# Altium footprint library diode.PcbLib: 9 footprints
Each footprint in its own frame and in the unit in brackets; x right, y up, seen from the top. Pads: shape width x height; smd on the part's side, far side on the other; paste and mask are expansions set on the pad; w line width, h text height; cw(c..) or ccw(c..) is an arc to the next point about the centre after c.
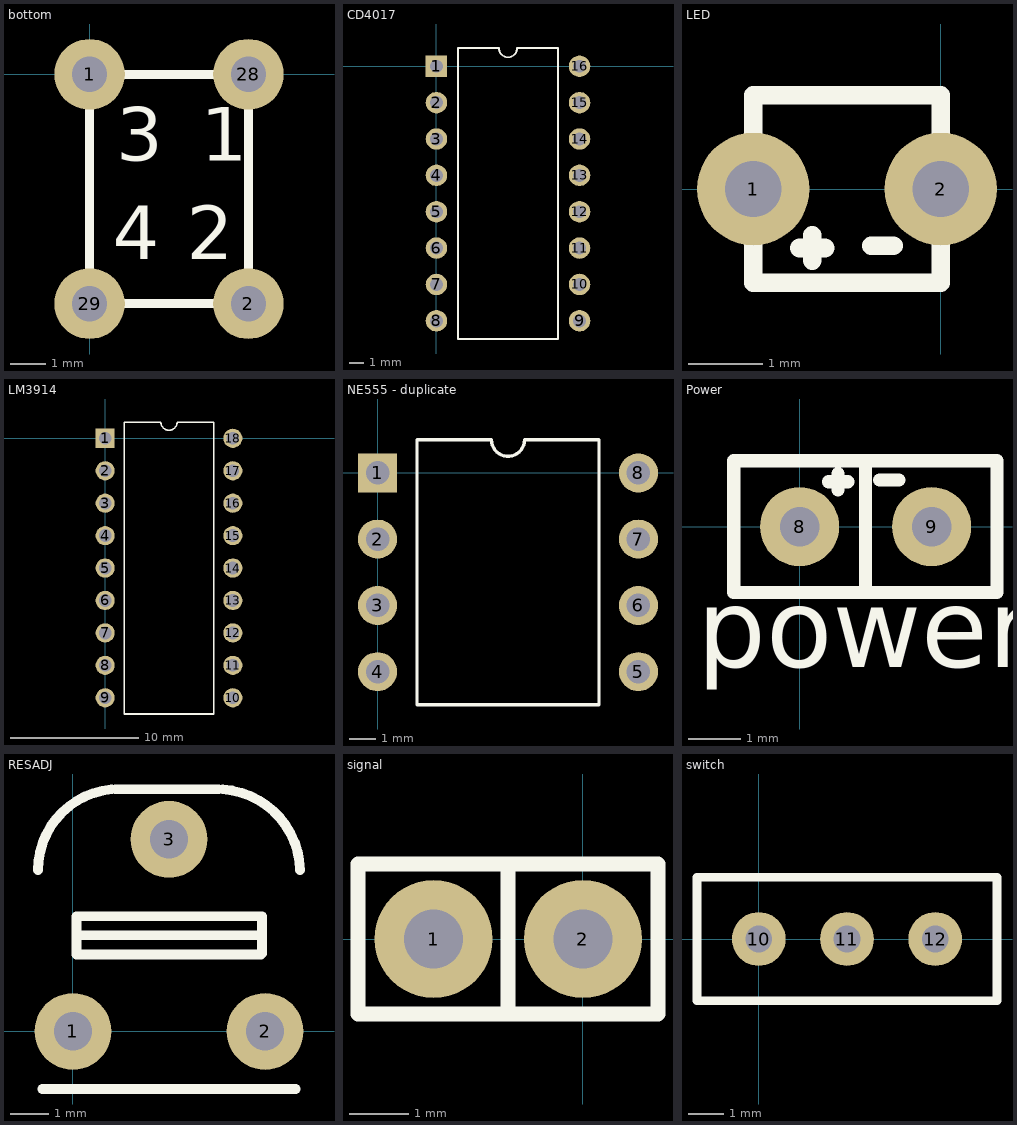
[diagram p0: the footprints below, top view; thin cyan lines are the x and y axes]

## bottom [mm]
pads (4):
  round 2 hole 1: 1(0,0) 2(4.5,-6.5) 28(4.5,0) 29(0,-6.5)
Top Overlay:
  lines w0.254: 0,-6.5 0,0 4.5,0 4.5,-6.5 0,-6.5
  text "4" at 0.654,-5.246 h1.52
  text "2" at 2.754,-5.246 h1.52
  text "3" at 0.754,-2.446 h1.52
  text "1" at 3.154,-2.446 h1.52

## CD4017 [mm]
pads (16):
  rect 1.5x1.5 hole 0.9: 1(0,0)
  round 1.5 hole 0.9: 2(0,-2.54) 3(0,-5.08) 4(0,-7.62) 5(0,-10.16) 6(0,-12.7) 7(0,-15.24) 8(0,-17.78) 9(10,-17.78) 10(10,-15.24) 11(10,-12.7) 12(10,-10.16) 13(10,-7.62) 14(10,-5.08) 15(10,-2.54) 16(10,0)
Top Overlay:
  lines w0.125: 1.51,-19.05 8.49,-19.05 8.49,1.27 5.635,1.27 cw(c5,1.27) 4.365,1.27 1.51,1.27 1.51,-19.05

## LED [mil]
pads (2):
  round 60 hole 30: 1(-100,0) 2(0,0)
Top Overlay:
  lines w10: -75.29,-31.41 -61.72,-31.41 -68.5,-31.41 ; -68.5,-38.19 -68.5,-24.62 ; -37.01,-30.32 -25.2,-30.32 ; -100,-50 0,-50 0,50 -100,50 -100,-50

## LM3914 [mm]
pads (18):
  rect 1.5x1.5 hole 1: 1(0,0)
  round 1.5 hole 1: 2(0,-2.54) 3(0,-5.08) 4(0,-7.62) 5(0,-10.16) 6(0,-12.7) 7(0,-15.24) 8(0,-17.78) 9(0,-20.32) 10(10,-20.32) 11(10,-17.78) 12(10,-15.24) 13(10,-12.7) 14(10,-10.16) 15(10,-7.62) 16(10,-5.08) 17(10,-2.54) 18(10,0)
Top Overlay:
  lines w0.125: 1.51,-21.59 8.49,-21.59 8.49,1.27 5.635,1.27 cw(c5,1.27) 4.365,1.27 1.51,1.27 1.51,-21.59

## NE555 - duplicate [mm]
pads (8):
  rect 1.5x1.5 hole 0.9: 1(0,0)
  round 1.5 hole 0.9: 2(0,-2.54) 3(0,-5.08) 4(0,-7.62) 5(10,-7.62) 6(10,-5.08) 7(10,-2.54) 8(10,0)
Top Overlay:
  lines w0.125: 1.51,-8.89 1.51,1.27 4.365,1.27 ccw(c5,1.27) 5.635,1.27 8.49,1.27 8.49,-8.89 1.51,-8.89

## Power [mil]
pads (2):
  round 60 hole 30: 8(0,0) 9(100,0)
Top Overlay:
  lines w10: 21.85,34.06 36.42,34.06 29.13,34.06 ; 29.13,27.95 29.13,40.16 ; 60.63,35.43 75.2,35.43 ; 50,-50 149.61,-50 149.61,50 50,50 ; 50,-50 -50,-50 -50,50 50,50 ; 50,-50 50,0 50,50
  text "power" at -77.8,-106.62 h60

## RESADJ [mm]
pads (3):
  round 2 hole 1: 1(0,0) 2(5,0) 3(2.5,5)
Top Overlay:
  lines w0.254: -0.91,4.2 cw(c1.2,4.2) 1,6.3 ; -0.8,-1.5 5.8,-1.5 ; 0.093,2.5 4.907,2.5 ; 1.1,6.3 3.793,6.3 ; 3.9,6.3 cw(c3.757,4.15) 5.911,4.2 ; 0.093,2 4.894,2 4.919,2.026 4.919,3 0.093,3 0.093,2

## signal [mm]
pads (2):
  round 2 hole 1: 1(-2.53,0) 2(0,0)
Top Overlay:
  lines w0.254: -1.27,0 -1.27,1.27 -1.27,-1.27 ; -1.27,-1.27 1.27,-1.27 1.27,1.27 -3.81,1.27 -3.81,-1.27 -1.27,-1.27

## switch [mil]
pads (3):
  round 60 hole 30: 10(0,0) 11(98.43,0) 12(196.85,0)
Top Overlay:
  lines w10: -68.9,-68.9 265.75,-68.9 265.75,68.9 -68.9,68.9 -68.9,-68.9